# Altium schematic symbol library TYPE-C 12pin.Schlib: 1 symbol
Pins are listed as number, name and electrical type; pins without a type are passive.

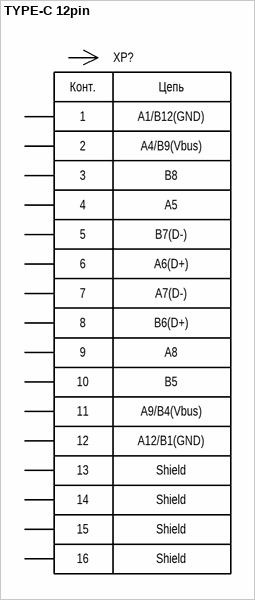
[diagram p0: symbol TYPE-C 12pin]

## TYPE-C 12pin
designator XP?
pins: 1, 2, 3, 4, 5, 6, 7, 8, 9, 10, 11, 12, 13, 14, 15, 16
text: Конт.; Цепь; A1/B12(GND); A4/B9(Vbus); B8; A5; B7(D-); A6(D+); A7(D-); B6(D+); A8; B5; A9/B4(Vbus); A12/B1(GND); Shield